# Altium schematic symbol library WR-TBL_Rising Cage Clamp.SchLib: 433 symbols (part 1 of 8)
Pins are listed as number, name and electrical type; pins without a type are passive.

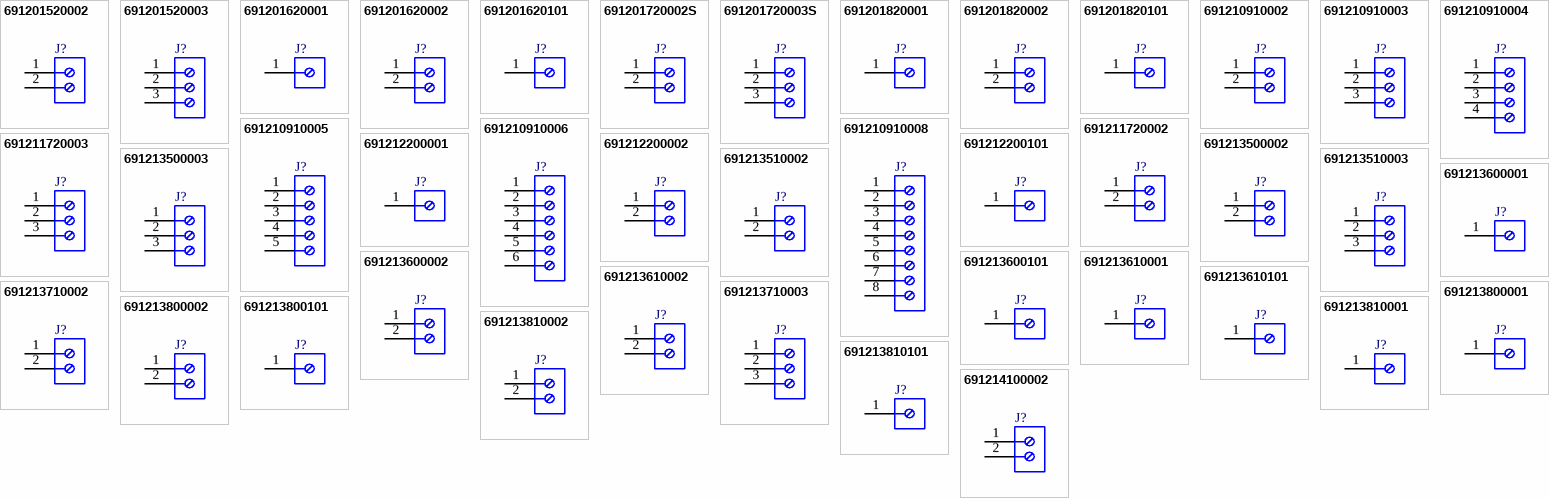
[diagram p0: symbols 691201520002 to 691214100002]

## 691201520002
designator J?  (value not drawn)
WR-TBL Series 2015 45° Entry Modular, THT, pitch 5.08mm, 02p; Manufacturer: Wurth Elektronik; Modularity: Yes; Rated Current: 16A; Wire Section: 12 to 30 (AWG) 3.31 to 0.0509 (mm^2); Working Voltage: 300V (AC); Manufacturer Part Number: 691201520002; Product Series: WR-TBL; ComponentLink1Description: Website Link; ComponentLink1URL: https://www.we-online.com; ComponentLink2Description: Datasheet Link; ComponentLink2URL: https://www.we-online.com/components/products/datasheet/691201520002; Mount: Through Hole; Operating Temperature Min: -30degC; Operating Temperature Max: 120degC; Packaging: Box; Application: Rising Cage Clamp; Number of Pins: 2; Number of Rows: 1; Orientation: 45deg; Lead Pitch: 5.08mm
footprint 691201520002
pins: 1, 2

## 691201520003
designator J?  (value not drawn)
WR-TBL Series 2015 45° Entry Modular, THT, pitch 5.08mm, 03p; Manufacturer: Wurth Elektronik; Modularity: Yes; Rated Current: 16A; Wire Section: 12 to 30 (AWG) 3.31 to 0.0509 (mm^2); Working Voltage: 300V (AC); Manufacturer Part Number: 691201520003; Product Series: WR-TBL; ComponentLink1Description: Website Link; ComponentLink1URL: https://www.we-online.com; ComponentLink2Description: Datasheet Link; ComponentLink2URL: https://www.we-online.com/components/products/datasheet/691201520003; Mount: Through Hole; Operating Temperature Min: -30degC; Operating Temperature Max: 120degC; Packaging: Box; Application: Rising Cage Clamp; Number of Pins: 3; Number of Rows: 1; Orientation: 45deg; Lead Pitch: 5.08mm
footprint 691201520003
pins: 1, 2, 3

## 691201620001
designator J?  (value not drawn)
WR-TBL Series 2016 45° Entry, THT, pitch 10.16mm, 01p; Manufacturer: Wurth Elektronik; Modularity: Yes; Rated Current: 16A; Wire Section: 12 to 30 (AWG) 3.31 to 0.05 (mm^2); Working Voltage: 300V (AC); Manufacturer Part Number: 691201620001; Product Series: WR-TBL; ComponentLink1Description: Website Link; ComponentLink1URL: https://www.we-online.com; ComponentLink2Description: Datasheet Link; ComponentLink2URL: https://www.we-online.com/components/products/datasheet/691201620001; Mount: Through Hole; Operating Temperature Min: -30degC; Operating Temperature Max: 120degC; Packaging: Box; Application: Rising Cage Clamp; Number of Pins: 1; Number of Rows: 1; Orientation: 45deg; Lead Pitch: 10.16mm
footprint 691201620001
pins: 1

## 691201620002
designator J?  (value not drawn)
WR-TBL Series 2016 45° Entry, THT, pitch 10.16mm, 02p; Manufacturer: Wurth Elektronik; Modularity: Yes; Rated Current: 16A; Wire Section: 12 to 30 (AWG) 3.31 to 0.05 (mm^2); Working Voltage: 300V (AC); Manufacturer Part Number: 691201620002; Product Series: WR-TBL; ComponentLink1Description: Website Link; ComponentLink1URL: https://www.we-online.com; ComponentLink2Description: Datasheet Link; ComponentLink2URL: https://www.we-online.com/components/products/datasheet/691201620002; Mount: Through Hole; Operating Temperature Min: -30degC; Operating Temperature Max: 120degC; Packaging: Box; Application: Rising Cage Clamp; Number of Pins: 2; Number of Rows: 1; Orientation: 45deg; Lead Pitch: 10.16mm
footprint 691201620002
pins: 1, 2

## 691201620101
designator J?  (value not drawn)
WR-TBL Series 2016 45° Entry, THT, pitch 10.16mm, 01p; Manufacturer: Wurth Elektronik; Modularity: Yes; Rated Current: 16A; Wire Section: 12 to 30 (AWG) 3.31 to 0.05 (mm^2); Working Voltage: 300V (AC); Manufacturer Part Number: 691201620101; Product Series: WR-TBL; ComponentLink1Description: Website Link; ComponentLink1URL: https://www.we-online.com; ComponentLink2Description: Datasheet Link; ComponentLink2URL: https://www.we-online.com/components/products/datasheet/691201620101; Mount: Through Hole; Operating Temperature Min: -30degC; Operating Temperature Max: 120degC; Packaging: Box; Application: Rising Cage Clamp; Number of Pins: 1; Number of Rows: 1; Orientation: 45deg; Lead Pitch: 10.16mm
footprint 691201620101
pins: 1

## 691201720002S
designator J?  (value not drawn)
WR-TBL Series 201S 45° Entry Modular, THT, pitch 5mm, 02p; Manufacturer: Wurth Elektronik; Modularity: Yes; Rated Current: 16A; Wire Section: 30 to 12 (AWG) 0.05 to 3.31 (mm^2); Working Voltage: 300V (AC); Manufacturer Part Number: 691201720002S; Product Series: WR-TBL; ComponentLink1Description: Website Link; ComponentLink1URL: https://www.we-online.com; ComponentLink2Description: Datasheet Link; ComponentLink2URL: https://www.we-online.com/components/products/datasheet/691201720002S; Mount: Through Hole; Operating Temperature Min: -30degC; Operating Temperature Max: 120degC; Packaging: Box; Application: Rising Cage Clamp; Number of Pins: 2; Number of Rows: 1; Orientation: 45deg; Lead Pitch: 5mm
footprint 691201720002S
pins: 1, 2

## 691201720003S
designator J?  (value not drawn)
WR-TBL Series 201S 45° Entry Modular, THT, pitch 5mm, 03p; Manufacturer: Wurth Elektronik; Modularity: Yes; Rated Current: 16A; Wire Section: 30 to 12 (AWG) 0.05 to 3.31 (mm^2); Working Voltage: 300V (AC); Manufacturer Part Number: 691201720003S; Product Series: WR-TBL; ComponentLink1Description: Website Link; ComponentLink1URL: https://www.we-online.com; ComponentLink2Description: Datasheet Link; ComponentLink2URL: https://www.we-online.com/components/products/datasheet/691201720003S; Mount: Through Hole; Operating Temperature Min: -30degC; Operating Temperature Max: 120degC; Packaging: Box; Application: Rising Cage Clamp; Number of Pins: 3; Number of Rows: 1; Orientation: 45deg; Lead Pitch: 5mm
footprint 691201720003S
pins: 1, 2, 3

## 691201820001
designator J?  (value not drawn)
WR-TBL Series 2018 45° Entry, THT, pitch 10mm, 01p; Manufacturer: Wurth Elektronik; Modularity: Yes; Rated Current: 16A; Wire Section: 12 to 30 (AWG) 3.31 to 0.05 (mm^2); Working Voltage: 300V (AC); Manufacturer Part Number: 691201820001; Product Series: WR-TBL; ComponentLink1Description: Website Link; ComponentLink1URL: https://www.we-online.com; ComponentLink2Description: Datasheet Link; ComponentLink2URL: https://www.we-online.com/components/products/datasheet/691201820001; Mount: Through Hole; Operating Temperature Min: -30degC; Operating Temperature Max: 120degC; Packaging: Box; Application: Rising Cage Clamp; Number of Pins: 1; Number of Rows: 1; Orientation: 45deg; Lead Pitch: 10mm
footprint 691201820001
pins: 1

## 691201820002
designator J?  (value not drawn)
WR-TBL Series 2018 45° Entry, THT, pitch 10mm, 02p; Manufacturer: Wurth Elektronik; Modularity: Yes; Rated Current: 16A; Wire Section: 12 to 30 (AWG) 3.31 to 0.05 (mm^2); Working Voltage: 300V (AC); Manufacturer Part Number: 691201820002; Product Series: WR-TBL; ComponentLink1Description: Website Link; ComponentLink1URL: https://www.we-online.com; ComponentLink2Description: Datasheet Link; ComponentLink2URL: https://www.we-online.com/components/products/datasheet/691201820002; Mount: Through Hole; Operating Temperature Min: -30degC; Operating Temperature Max: 120degC; Packaging: Box; Application: Rising Cage Clamp; Number of Pins: 2; Number of Rows: 1; Orientation: 45deg; Lead Pitch: 10mm
footprint 691201820002
pins: 1, 2

## 691201820101
designator J?  (value not drawn)
WR-TBL Series 2018 45° Entry, THT, pitch 10mm, 01p; Manufacturer: Wurth Elektronik; Modularity: Yes; Rated Current: 16A; Wire Section: 12 to 30 (AWG) 3.31 to 0.05 (mm^2); Working Voltage: 300V (AC); Manufacturer Part Number: 691201820101; Product Series: WR-TBL; ComponentLink1Description: Website Link; ComponentLink1URL: https://www.we-online.com; ComponentLink2Description: Datasheet Link; ComponentLink2URL: https://www.we-online.com/components/products/datasheet/691201820101; Mount: Through Hole; Operating Temperature Min: -30degC; Operating Temperature Max: 120degC; Packaging: Box; Application: Rising Cage Clamp; Number of Pins: 1; Number of Rows: 1; Orientation: 45deg; Lead Pitch: 10mm
footprint 691201820101
pins: 1

## 691210910002
designator J?  (value not drawn)
WR-TBL Series 2109 Horizontal Entry, THT, pitch 2.54mm, 02p; Manufacturer: Wurth Elektronik; Modularity: No; Rated Current: 6A; Wire Section: 30 to 18 (AWG) 0.2 to 0.75 (mm^2); Working Voltage: 150V (AC); Manufacturer Part Number: 691210910002; Product Series: WR-TBL; ComponentLink1Description: Website Link; ComponentLink1URL: https://www.we-online.com; ComponentLink2Description: Datasheet Link; ComponentLink2URL: https://www.we-online.com/components/products/datasheet/691210910002; Mount: Through Hole; Operating Temperature Min: -40degC; Operating Temperature Max: 105degC; Packaging: Box; Application: Rising Cage Clamp; Number of Pins: 2; Number of Rows: 1; Orientation: Horizontal; Lead Pitch: 2.54mm
footprint 691210910002
pins: 1, 2

## 691210910003
designator J?  (value not drawn)
WR-TBL Series 2109 Horizontal Entry, THT, pitch 2.54mm, 03p; Manufacturer: Wurth Elektronik; Modularity: No; Rated Current: 6A; Wire Section: 30 to 18 (AWG) 0.2 to 0.75 (mm^2); Working Voltage: 150V (AC); Manufacturer Part Number: 691210910003; Product Series: WR-TBL; ComponentLink1Description: Website Link; ComponentLink1URL: https://www.we-online.com; ComponentLink2Description: Datasheet Link; ComponentLink2URL: https://www.we-online.com/components/products/datasheet/691210910003; Mount: Through Hole; Operating Temperature Min: -40degC; Operating Temperature Max: 105degC; Packaging: Box; Application: Rising Cage Clamp; Number of Pins: 3; Number of Rows: 1; Orientation: Horizontal; Lead Pitch: 2.54mm
footprint 691210910003
pins: 1, 2, 3

## 691210910004
designator J?  (value not drawn)
WR-TBL Series 2109 Horizontal Entry, THT, pitch 2.54mm, 04p; Manufacturer: Wurth Elektronik; Modularity: No; Rated Current: 6A; Wire Section: 30 to 18 (AWG) 0.2 to 0.75 (mm^2); Working Voltage: 150V (AC); Manufacturer Part Number: 691210910004; Product Series: WR-TBL; ComponentLink1Description: Website Link; ComponentLink1URL: https://www.we-online.com; ComponentLink2Description: Datasheet Link; ComponentLink2URL: https://www.we-online.com/components/products/datasheet/691210910004; Mount: Through Hole; Operating Temperature Min: -40degC; Operating Temperature Max: 105degC; Packaging: Box; Application: Rising Cage Clamp; Number of Pins: 4; Number of Rows: 1; Orientation: Horizontal; Lead Pitch: 2.54mm
footprint 691210910004
pins: 1, 2, 3, 4

## 691210910005
designator J?  (value not drawn)
WR-TBL Series 2109 Horizontal Entry, THT, pitch 2.54mm, 05p; Manufacturer: Wurth Elektronik; Modularity: No; Rated Current: 6A; Wire Section: 30 to 18 (AWG) 0.2 to 0.75 (mm^2); Working Voltage: 150V (AC); Manufacturer Part Number: 691210910005; Product Series: WR-TBL; ComponentLink1Description: Website Link; ComponentLink1URL: https://www.we-online.com; ComponentLink2Description: Datasheet Link; ComponentLink2URL: https://www.we-online.com/components/products/datasheet/691210910005; Mount: Through Hole; Operating Temperature Min: -40degC; Operating Temperature Max: 105degC; Packaging: Box; Application: Rising Cage Clamp; Number of Pins: 5; Number of Rows: 1; Orientation: Horizontal; Lead Pitch: 2.54mm
footprint 691210910005
pins: 1, 2, 3, 4, 5

## 691210910006
designator J?  (value not drawn)
WR-TBL Series 2109 Horizontal Entry, THT, pitch 2.54mm, 06p; Manufacturer: Wurth Elektronik; Modularity: No; Rated Current: 6A; Wire Section: 30 to 18 (AWG) 0.2 to 0.75 (mm^2); Working Voltage: 150V (AC); Manufacturer Part Number: 691210910006; Product Series: WR-TBL; ComponentLink1Description: Website Link; ComponentLink1URL: https://www.we-online.com; ComponentLink2Description: Datasheet Link; ComponentLink2URL: https://www.we-online.com/components/products/datasheet/691210910006; Mount: Through Hole; Operating Temperature Min: -40degC; Operating Temperature Max: 105degC; Packaging: Box; Application: Rising Cage Clamp; Number of Pins: 6; Number of Rows: 1; Orientation: Horizontal; Lead Pitch: 2.54mm
footprint 691210910006
pins: 1, 2, 3, 4, 5, 6

## 691210910008
designator J?  (value not drawn)
WR-TBL Series 2109 Horizontal Entry, THT, pitch 2.54mm, 08p; Manufacturer: Wurth Elektronik; Modularity: No; Rated Current: 6A; Wire Section: 30 to 18 (AWG) 0.2 to 0.75 (mm^2); Working Voltage: 150V (AC); Manufacturer Part Number: 691210910008; Product Series: WR-TBL; ComponentLink1Description: Website Link; ComponentLink1URL: https://www.we-online.com; ComponentLink2Description: Datasheet Link; ComponentLink2URL: https://www.we-online.com/components/products/datasheet/691210910008; Mount: Through Hole; Operating Temperature Min: -40degC; Operating Temperature Max: 105degC; Packaging: Box; Application: Rising Cage Clamp; Number of Pins: 8; Number of Rows: 1; Orientation: Horizontal; Lead Pitch: 2.54mm
footprint 691210910008
pins: 1, 2, 3, 4, 5, 6, 7, 8

## 691211720002
designator J?  (value not drawn)
WR-TBL Series 211 45° Entry Modular, THT, pitch 5mm, 02p; Manufacturer: Wurth Elektronik; Modularity: Yes; Rated Current: 10A; Wire Section: 24 to 12 (AWG) 0.2 to 2.5 (mm^2); Working Voltage: 300V (AC); Manufacturer Part Number: 691211720002; Product Series: WR-TBL; ComponentLink1Description: Website Link; ComponentLink1URL: https://www.we-online.com; ComponentLink2Description: Datasheet Link; ComponentLink2URL: https://www.we-online.com/components/products/datasheet/691211720002; Mount: Through Hole; Operating Temperature Min: -40degC; Operating Temperature Max: 105degC; Packaging: Box; Application: Rising Cage Clamp; Number of Pins: 2; Number of Rows: 1; Orientation: 45deg; Lead Pitch: 5mm
footprint 691211720002
pins: 1, 2

## 691211720003
designator J?  (value not drawn)
WR-TBL Series 211 45° Entry Modular, THT, pitch 5mm, 03p; Manufacturer: Wurth Elektronik; Modularity: Yes; Rated Current: 10A; Wire Section: 24 to 12 (AWG) 0.2 to 2.5 (mm^2); Working Voltage: 300V (AC); Manufacturer Part Number: 691211720003; Product Series: WR-TBL; ComponentLink1Description: Website Link; ComponentLink1URL: https://www.we-online.com; ComponentLink2Description: Datasheet Link; ComponentLink2URL: https://www.we-online.com/components/products/datasheet/691211720003; Mount: Through Hole; Operating Temperature Min: -40degC; Operating Temperature Max: 105degC; Packaging: Box; Application: Rising Cage Clamp; Number of Pins: 3; Number of Rows: 1; Orientation: 45deg; Lead Pitch: 5mm
footprint 691211720003
pins: 1, 2, 3

## 691212200001
designator J?  (value not drawn)
WR-TBL Series 2122 Vertical Cable Entry, THT, pitch 7mm, 01p; Manufacturer: Wurth Elektronik; Modularity: Yes; Rated Current: 10A; Wire Section: 16 to 30 (AWG) 1.31 to 0.0509 (mm^2); Working Voltage: 300V (AC); Manufacturer Part Number: 691212200001; Product Series: WR-TBL; ComponentLink1Description: Website Link; ComponentLink1URL: https://www.we-online.com; ComponentLink2Description: Datasheet Link; ComponentLink2URL: https://www.we-online.com/components/products/datasheet/691212200001; Mount: Through Hole; Operating Temperature Min: -30degC; Operating Temperature Max: 120degC; Packaging: Box; Application: Rising Cage Clamp; Number of Pins: 1; Number of Rows: 1; Orientation: Vertical; Lead Pitch: 7mm
footprint 691212200001
pins: 1

## 691212200002
designator J?  (value not drawn)
WR-TBL Series 2122 Vertical Cable Entry, THT, pitch 7mm, 02p; Manufacturer: Wurth Elektronik; Modularity: Yes; Rated Current: 10A; Wire Section: 16 to 30 (AWG) 1.31 to 0.0509 (mm^2); Working Voltage: 300V (AC); Manufacturer Part Number: 691212200002; Product Series: WR-TBL; ComponentLink1Description: Website Link; ComponentLink1URL: https://www.we-online.com; ComponentLink2Description: Datasheet Link; ComponentLink2URL: https://www.we-online.com/components/products/datasheet/691212200002; Mount: Through Hole; Operating Temperature Min: -30degC; Operating Temperature Max: 120degC; Packaging: Box; Application: Rising Cage Clamp; Number of Pins: 2; Number of Rows: 1; Orientation: Vertical; Lead Pitch: 7mm
footprint 691212200002
pins: 1, 2

## 691212200101
designator J?  (value not drawn)
WR-TBL Series 2122 Vertical Cable Entry, THT, pitch 7mm, 01p; Manufacturer: Wurth Elektronik; Modularity: Yes; Rated Current: 10A; Wire Section: 16 to 30 (AWG) 1.31 to 0.0509 (mm^2); Working Voltage: 300V (AC); Manufacturer Part Number: 691212200101; Product Series: WR-TBL; ComponentLink1Description: Website Link; ComponentLink1URL: https://www.we-online.com; ComponentLink2Description: Datasheet Link; ComponentLink2URL: https://www.we-online.com/components/products/datasheet/691212200101; Mount: Through Hole; Operating Temperature Min: -30degC; Operating Temperature Max: 120degC; Packaging: Box; Application: Rising Cage Clamp; Number of Pins: 1; Number of Rows: 1; Orientation: Vertical; Lead Pitch: 7mm
footprint 691212200101
pins: 1

## 691213500002
designator J?  (value not drawn)
WR-TBL Series 2135 Vertical Entry Modular, THT, pitch 5.08mm, 02p; Manufacturer: Wurth Elektronik; Modularity: Yes; Rated Current: 14A; Wire Section: 14 to 30 (AWG) 2.08 to 0.0509 (mm^2); Working Voltage: 300V (AC); Manufacturer Part Number: 691213500002; Product Series: WR-TBL; ComponentLink1Description: Website Link; ComponentLink1URL: https://www.we-online.com; ComponentLink2Description: Datasheet Link; ComponentLink2URL: https://www.we-online.com/components/products/datasheet/691213500002; Mount: Through Hole; Operating Temperature Min: -30degC; Operating Temperature Max: 120degC; Packaging: Box; Application: Rising Cage Clamp; Number of Pins: 2; Number of Rows: 1; Orientation: Vertical; Lead Pitch: 5.08mm
footprint 691213500002
pins: 1, 2

## 691213500003
designator J?  (value not drawn)
WR-TBL Series 2135 Vertical Entry Modular, THT, pitch 5.08mm, 03p; Manufacturer: Wurth Elektronik; Modularity: Yes; Rated Current: 14A; Wire Section: 14 to 30 (AWG) 2.08 to 0.0509 (mm^2); Working Voltage: 300V (AC); Manufacturer Part Number: 691213500003; Product Series: WR-TBL; ComponentLink1Description: Website Link; ComponentLink1URL: https://www.we-online.com; ComponentLink2Description: Datasheet Link; ComponentLink2URL: https://www.we-online.com/components/products/datasheet/691213500003; Mount: Through Hole; Operating Temperature Min: -30degC; Operating Temperature Max: 120degC; Packaging: Box; Application: Rising Cage Clamp; Number of Pins: 3; Number of Rows: 1; Orientation: Vertical; Lead Pitch: 5.08mm
footprint 691213500003
pins: 1, 2, 3

## 691213510002
designator J?  (value not drawn)
WR-TBL Series 2135 Horizontal Entry Modular, THT, pitch 5.08mm, 02p; Manufacturer: Wurth Elektronik; Modularity: Yes; Rated Current: 14A; Wire Section: 14 to 30 (AWG) 2.08 to 0.0509 (mm^2); Working Voltage: 300V (AC); Manufacturer Part Number: 691213510002; Product Series: WR-TBL; ComponentLink1Description: Website Link; ComponentLink1URL: https://www.we-online.com; ComponentLink2Description: Datasheet Link; ComponentLink2URL: https://www.we-online.com/components/products/datasheet/691213510002; Mount: Through Hole; Operating Temperature Min: -30degC; Operating Temperature Max: 120degC; Packaging: Box; Application: Rising Cage Clamp; Number of Pins: 2; Number of Rows: 1; Orientation: Horizontal; Lead Pitch: 5.08mm
footprint 691213510002
pins: 1, 2

## 691213510003
designator J?  (value not drawn)
WR-TBL Series 2135 Horizontal Entry Modular, THT, pitch 5.08mm, 03p; Manufacturer: Wurth Elektronik; Modularity: Yes; Rated Current: 14A; Wire Section: 14 to 30 (AWG) 2.08 to 0.0509 (mm^2); Working Voltage: 300V (AC); Manufacturer Part Number: 691213510003; Product Series: WR-TBL; ComponentLink1Description: Website Link; ComponentLink1URL: https://www.we-online.com; ComponentLink2Description: Datasheet Link; ComponentLink2URL: https://www.we-online.com/components/products/datasheet/691213510003; Mount: Through Hole; Operating Temperature Min: -30degC; Operating Temperature Max: 120degC; Packaging: Box; Application: Rising Cage Clamp; Number of Pins: 3; Number of Rows: 1; Orientation: Horizontal; Lead Pitch: 5.08mm
footprint 691213510003
pins: 1, 2, 3

## 691213600001
designator J?  (value not drawn)
WR-TBL Series 2136 Vertical Entry, THT, pitch 10.16mm, 01p; Manufacturer: Wurth Elektronik; Modularity: Yes; Rated Current: 14A; Wire Section: 14 to 30 (AWG) 2.08 to 0.0509 (mm^2); Working Voltage: 300V (AC); Manufacturer Part Number: 691213600001; Product Series: WR-TBL; ComponentLink1Description: Website Link; ComponentLink1URL: https://www.we-online.com; ComponentLink2Description: Datasheet Link; ComponentLink2URL: https://www.we-online.com/components/products/datasheet/691213600001; Mount: Through Hole; Operating Temperature Min: -30degC; Operating Temperature Max: 120degC; Packaging: Box; Application: Rising Cage Clamp; Number of Pins: 1; Number of Rows: 1; Orientation: Vertical; Lead Pitch: 10.16mm
footprint 691213600001
pins: 1

## 691213600002
designator J?  (value not drawn)
WR-TBL Series 2136 Vertical Entry, THT, pitch 10.16mm, 02p; Manufacturer: Wurth Elektronik; Modularity: Yes; Rated Current: 14A; Wire Section: 14 to 30 (AWG) 2.08 to 0.0509 (mm^2); Working Voltage: 300V (AC); Manufacturer Part Number: 691213600002; Product Series: WR-TBL; ComponentLink1Description: Website Link; ComponentLink1URL: https://www.we-online.com; ComponentLink2Description: Datasheet Link; ComponentLink2URL: https://www.we-online.com/components/products/datasheet/691213600002; Mount: Through Hole; Operating Temperature Min: -30degC; Operating Temperature Max: 120degC; Packaging: Box; Application: Rising Cage Clamp; Number of Pins: 2; Number of Rows: 1; Orientation: Vertical; Lead Pitch: 10.16mm
footprint 691213600002
pins: 1, 2

## 691213600101
designator J?  (value not drawn)
WR-TBL Series 2136 Vertical Entry, THT, pitch 10.16mm, 01p; Manufacturer: Wurth Elektronik; Modularity: Yes; Rated Current: 14A; Wire Section: 14 to 30 (AWG) 2.08 to 0.0509 (mm^2); Working Voltage: 300V (AC); Manufacturer Part Number: 691213600101; Product Series: WR-TBL; ComponentLink1Description: Website Link; ComponentLink1URL: https://www.we-online.com; ComponentLink2Description: Datasheet Link; ComponentLink2URL: https://www.we-online.com/components/products/datasheet/691213600101; Mount: Through Hole; Operating Temperature Min: -30degC; Operating Temperature Max: 120degC; Packaging: Box; Application: Rising Cage Clamp; Number of Pins: 1; Number of Rows: 1; Orientation: Vertical; Lead Pitch: 10.16mm
footprint 691213600101
pins: 1

## 691213610001
designator J?  (value not drawn)
WR-TBL Series 2136 Horizontal Entry, THT, pitch 10.16mm, 01p; Manufacturer: Wurth Elektronik; Modularity: Yes; Rated Current: 14A; Wire Section: 14 to 30 (AWG) 2.08 to 0.0509 (mm^2); Working Voltage: 300V (AC); Manufacturer Part Number: 691213610001; Product Series: WR-TBL; ComponentLink1Description: Website Link; ComponentLink1URL: https://www.we-online.com; ComponentLink2Description: Datasheet Link; ComponentLink2URL: https://www.we-online.com/components/products/datasheet/691213610001; Mount: Through Hole; Operating Temperature Min: -30degC; Operating Temperature Max: 120degC; Packaging: Box; Application: Rising Cage Clamp; Number of Pins: 1; Number of Rows: 1; Orientation: Horizontal; Lead Pitch: 10.16mm
footprint 691213610001
pins: 1

## 691213610002
designator J?  (value not drawn)
WR-TBL Series 2136 Horizontal Entry, THT, pitch 10.16mm, 02p; Manufacturer: Wurth Elektronik; Modularity: Yes; Rated Current: 14A; Wire Section: 14 to 30 (AWG) 2.08 to 0.0509 (mm^2); Working Voltage: 300V (AC); Manufacturer Part Number: 691213610002; Product Series: WR-TBL; ComponentLink1Description: Website Link; ComponentLink1URL: https://www.we-online.com; ComponentLink2Description: Datasheet Link; ComponentLink2URL: https://www.we-online.com/components/products/datasheet/691213610002; Mount: Through Hole; Operating Temperature Min: -30degC; Operating Temperature Max: 120degC; Packaging: Box; Application: Rising Cage Clamp; Number of Pins: 2; Number of Rows: 1; Orientation: Horizontal; Lead Pitch: 10.16mm
footprint 691213610002
pins: 1, 2

## 691213610101
designator J?  (value not drawn)
WR-TBL Series 2136 Horizontal Entry, THT, pitch 10.16mm, 01p; Manufacturer: Wurth Elektronik; Modularity: Yes; Rated Current: 14A; Wire Section: 14 to 30 (AWG) 2.08 to 0.0509 (mm^2); Working Voltage: 300V (AC); Manufacturer Part Number: 691213610101; Product Series: WR-TBL; ComponentLink1Description: Website Link; ComponentLink1URL: https://www.we-online.com; ComponentLink2Description: Datasheet Link; ComponentLink2URL: https://www.we-online.com/components/products/datasheet/691213610101; Mount: Through Hole; Operating Temperature Min: -30degC; Operating Temperature Max: 120degC; Packaging: Box; Application: Rising Cage Clamp; Number of Pins: 1; Number of Rows: 1; Orientation: Horizontal; Lead Pitch: 10.16mm
footprint 691213610101
pins: 1

## 691213710002
designator J?  (value not drawn)
WR-TBL Series 213 Horizontal Entry Modular, THT, pitch 5mm, 02p; Manufacturer: Wurth Elektronik; Modularity: Yes; Rated Current: 10A; Wire Section: 26 to 16 (AWG) 0.5 to 1.5 (mm^2); Working Voltage: 300V (AC); Manufacturer Part Number: 691213710002; Product Series: WR-TBL; ComponentLink1Description: Website Link; ComponentLink1URL: https://www.we-online.com; ComponentLink2Description: Datasheet Link; ComponentLink2URL: https://www.we-online.com/components/products/datasheet/691213710002; Mount: Through Hole; Operating Temperature Min: -40degC; Operating Temperature Max: 105degC; Packaging: Box; Application: Rising Cage Clamp; Number of Pins: 2; Number of Rows: 1; Orientation: Horizontal; Lead Pitch: 5mm
footprint 691213710002
pins: 1, 2

## 691213710003
designator J?  (value not drawn)
WR-TBL Series 213 Horizontal Entry Modular, THT, pitch 5mm, 03p; Manufacturer: Wurth Elektronik; Modularity: Yes; Rated Current: 10A; Wire Section: 26 to 16 (AWG) 0.5 to 1.5 (mm^2); Working Voltage: 300V (AC); Manufacturer Part Number: 691213710003; Product Series: WR-TBL; ComponentLink1Description: Website Link; ComponentLink1URL: https://www.we-online.com; ComponentLink2Description: Datasheet Link; ComponentLink2URL: https://www.we-online.com/components/products/datasheet/691213710003; Mount: Through Hole; Operating Temperature Min: -40degC; Operating Temperature Max: 105degC; Packaging: Box; Application: Rising Cage Clamp; Number of Pins: 3; Number of Rows: 1; Orientation: Horizontal; Lead Pitch: 5mm
footprint 691213710003
pins: 1, 2, 3

## 691213800001
designator J?  (value not drawn)
WR-TBL Series 2138 Vertical Entry, THT, pitch 10mm, 01p; Manufacturer: Wurth Elektronik; Modularity: Yes; Rated Current: 14A; Wire Section: 14 to 30 (AWG) 2.08 to 0.0509 (mm^2); Working Voltage: 300V (AC); Manufacturer Part Number: 691213800001; Product Series: WR-TBL; ComponentLink1Description: Website Link; ComponentLink1URL: https://www.we-online.com; ComponentLink2Description: Datasheet Link; ComponentLink2URL: https://www.we-online.com/components/products/datasheet/691213800001; Mount: Through Hole; Operating Temperature Min: -30degC; Operating Temperature Max: 120degC; Packaging: Box; Application: Rising Cage Clamp; Number of Pins: 1; Number of Rows: 1; Orientation: Vertical; Lead Pitch: 10mm
footprint 691213800001
pins: 1

## 691213800002
designator J?  (value not drawn)
WR-TBL Series 2138 Vertical Entry, THT, pitch 10mm, 02p; Manufacturer: Wurth Elektronik; Modularity: Yes; Rated Current: 14A; Wire Section: 14 to 30 (AWG) 2.08 to 0.0509 (mm^2); Working Voltage: 300V (AC); Manufacturer Part Number: 691213800002; Product Series: WR-TBL; ComponentLink1Description: Website Link; ComponentLink1URL: https://www.we-online.com; ComponentLink2Description: Datasheet Link; ComponentLink2URL: https://www.we-online.com/components/products/datasheet/691213800002; Mount: Through Hole; Operating Temperature Min: -30degC; Operating Temperature Max: 120degC; Packaging: Box; Application: Rising Cage Clamp; Number of Pins: 2; Number of Rows: 1; Orientation: Vertical; Lead Pitch: 10mm
footprint 691213800002
pins: 1, 2

## 691213800101
designator J?  (value not drawn)
WR-TBL Series 2138 Vertical Entry, THT, pitch 10mm, 01p; Manufacturer: Wurth Elektronik; Modularity: Yes; Rated Current: 14A; Wire Section: 14 to 30 (AWG) 2.08 to 0.0509 (mm^2); Working Voltage: 300V (AC); Manufacturer Part Number: 691213800101; Product Series: WR-TBL; ComponentLink1Description: Website Link; ComponentLink1URL: https://www.we-online.com; ComponentLink2Description: Datasheet Link; ComponentLink2URL: https://www.we-online.com/components/products/datasheet/691213800101; Mount: Through Hole; Operating Temperature Min: -30degC; Operating Temperature Max: 120degC; Packaging: Box; Application: Rising Cage Clamp; Number of Pins: 1; Number of Rows: 1; Orientation: Vertical; Lead Pitch: 10mm
footprint 691213800101
pins: 1

## 691213810001
designator J?  (value not drawn)
WR-TBL Series 2138 Horizontal Entry, THT, pitch 10mm, 01p; Manufacturer: Wurth Elektronik; Modularity: Yes; Rated Current: 14A; Wire Section: 14 to 30 (AWG) 2.08 to 0.0509 (mm^2); Working Voltage: 300V (AC); Manufacturer Part Number: 691213810001; Product Series: WR-TBL; ComponentLink1Description: Website Link; ComponentLink1URL: https://www.we-online.com; ComponentLink2Description: Datasheet Link; ComponentLink2URL: https://www.we-online.com/components/products/datasheet/691213810001; Mount: Through Hole; Operating Temperature Min: -30degC; Operating Temperature Max: 120degC; Packaging: Box; Application: Rising Cage Clamp; Number of Pins: 1; Number of Rows: 1; Orientation: Horizontal; Lead Pitch: 10mm
footprint 691213810001
pins: 1

## 691213810002
designator J?  (value not drawn)
WR-TBL Series 2138 Horizontal Entry, THT, pitch 10mm, 02p; Manufacturer: Wurth Elektronik; Modularity: Yes; Rated Current: 14A; Wire Section: 14 to 30 (AWG) 2.08 to 0.0509 (mm^2); Working Voltage: 300V (AC); Manufacturer Part Number: 691213810002; Product Series: WR-TBL; ComponentLink1Description: Website Link; ComponentLink1URL: https://www.we-online.com; ComponentLink2Description: Datasheet Link; ComponentLink2URL: https://www.we-online.com/components/products/datasheet/691213810002; Mount: Through Hole; Operating Temperature Min: -30degC; Operating Temperature Max: 120degC; Packaging: Box; Application: Rising Cage Clamp; Number of Pins: 2; Number of Rows: 1; Orientation: Horizontal; Lead Pitch: 10mm
footprint 691213810002
pins: 1, 2

## 691213810101
designator J?  (value not drawn)
WR-TBL Series 2138 Horizontal Entry, THT, pitch 10mm, 01p; Manufacturer: Wurth Elektronik; Modularity: Yes; Rated Current: 14A; Wire Section: 14 to 30 (AWG) 2.08 to 0.0509 (mm^2); Working Voltage: 300V (AC); Manufacturer Part Number: 691213810101; Product Series: WR-TBL; ComponentLink1Description: Website Link; ComponentLink1URL: https://www.we-online.com; ComponentLink2Description: Datasheet Link; ComponentLink2URL: https://www.we-online.com/components/products/datasheet/691213810101; Mount: Through Hole; Operating Temperature Min: -30degC; Operating Temperature Max: 120degC; Packaging: Box; Application: Rising Cage Clamp; Number of Pins: 1; Number of Rows: 1; Orientation: Horizontal; Lead Pitch: 10mm
footprint 691213810101
pins: 1

## 691214100002
designator J?  (value not drawn)
WR-TBL Series 2141 Vertical Entry Modular, THT, pitch 3.5mm, 02p; Manufacturer: Wurth Elektronik; Modularity: Yes; Rated Current: 10A; Wire Section: 30 to 16 (AWG) 0.05 to 1.31 (mm^2); Working Voltage: 300V (AC); Manufacturer Part Number: 691214100002; Product Series: WR-TBL; ComponentLink1Description: Website Link; ComponentLink1URL: https://www.we-online.com; ComponentLink2Description: Datasheet Link; ComponentLink2URL: https://www.we-online.com/components/products/datasheet/691214100002; Mount: Through Hole; Operating Temperature Min: -30degC; Operating Temperature Max: 120degC; Packaging: Box; Application: Rising Cage Clamp; Number of Pins: 2; Number of Rows: 1; Orientation: Vertical; Lead Pitch: 3.5mm
footprint 691214100002
pins: 1, 2

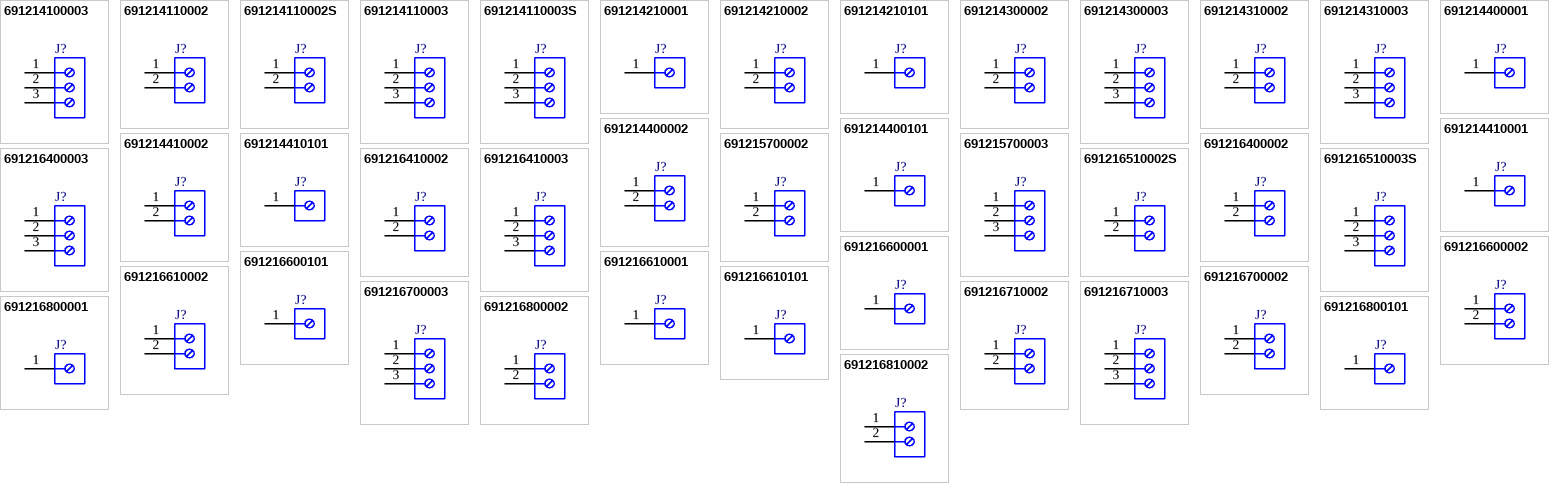
[diagram p1: symbols 691214100003 to 691216810002]

## 691214100003
designator J?  (value not drawn)
WR-TBL Series 2141 Vertical Entry Modular, THT, pitch 3.5mm, 03p; Manufacturer: Wurth Elektronik; Modularity: Yes; Rated Current: 10A; Wire Section: 30 to 16 (AWG) 0.05 to 1.31 (mm^2); Working Voltage: 300V (AC); Manufacturer Part Number: 691214100003; Product Series: WR-TBL; ComponentLink1Description: Website Link; ComponentLink1URL: https://www.we-online.com; ComponentLink2Description: Datasheet Link; ComponentLink2URL: https://www.we-online.com/components/products/datasheet/691214100003; Mount: Through Hole; Operating Temperature Min: -30degC; Operating Temperature Max: 120degC; Packaging: Box; Application: Rising Cage Clamp; Number of Pins: 3; Number of Rows: 1; Orientation: Vertical; Lead Pitch: 3.5mm
footprint 691214100003
pins: 1, 2, 3

## 691214110002
designator J?  (value not drawn)
WR-TBL Series 2141 Horizontal Entry Modular, THT, pitch 3.5mm, 02p; Manufacturer: Wurth Elektronik; Modularity: Yes; Rated Current: 10A; Wire Section: 24 to 16 (AWG) 0.2 to 1 (mm^2); Working Voltage: 300V (AC); Manufacturer Part Number: 691214110002; Product Series: WR-TBL; ComponentLink1Description: Website Link; ComponentLink1URL: https://www.we-online.com; ComponentLink2Description: Datasheet Link; ComponentLink2URL: https://www.we-online.com/components/products/datasheet/691214110002; Mount: Through Hole; Operating Temperature Min: -40degC; Operating Temperature Max: 105degC; Packaging: Box; Application: Rising Cage Clamp; Number of Pins: 2; Number of Rows: 1; Orientation: Horizontal; Lead Pitch: 3.5mm
footprint 691214110002
pins: 1, 2

## 691214110002S
designator J?  (value not drawn)
WR-TBL Series 2141S Horizontal Entry Modular, THT, pitch 3.5mm, 02p; Manufacturer: Wurth Elektronik; Modularity: Yes; Rated Current: 10A; Wire Section: 30 to 16 (AWG) 0.05 to 1.31 (mm^2); Working Voltage: 300V (AC); Manufacturer Part Number: 691214110002S; Product Series: WR-TBL; ComponentLink1Description: Website Link; ComponentLink1URL: https://www.we-online.com; ComponentLink2Description: Datasheet Link; ComponentLink2URL: https://www.we-online.com/components/products/datasheet/691214110002S; Mount: Through Hole; Operating Temperature Min: -30degC; Operating Temperature Max: 120degC; Packaging: Box; Application: Rising Cage Clamp; Number of Pins: 2; Number of Rows: 1; Orientation: Horizontal; Lead Pitch: 3.5mm
footprint 691214110002S
pins: 1, 2

## 691214110003
designator J?  (value not drawn)
WR-TBL Series 2141 Horizontal Entry Modular, THT, pitch 3.5mm, 03p; Manufacturer: Wurth Elektronik; Modularity: Yes; Rated Current: 10A; Wire Section: 24 to 16 (AWG) 0.2 to 1 (mm^2); Working Voltage: 300V (AC); Manufacturer Part Number: 691214110003; Product Series: WR-TBL; ComponentLink1Description: Website Link; ComponentLink1URL: https://www.we-online.com; ComponentLink2Description: Datasheet Link; ComponentLink2URL: https://www.we-online.com/components/products/datasheet/691214110003; Mount: Through Hole; Operating Temperature Min: -40degC; Operating Temperature Max: 105degC; Packaging: Box; Application: Rising Cage Clamp; Number of Pins: 3; Number of Rows: 1; Orientation: Horizontal; Lead Pitch: 3.5mm
footprint 691214110003
pins: 1, 2, 3

## 691214110003S
designator J?  (value not drawn)
WR-TBL Series 2141S Horizontal Entry Modular, THT, pitch 3.5mm, 03p; Manufacturer: Wurth Elektronik; Modularity: Yes; Rated Current: 10A; Wire Section: 30 to 16 (AWG) 0.05 to 1.31 (mm^2); Working Voltage: 300V (AC); Manufacturer Part Number: 691214110003S; Product Series: WR-TBL; ComponentLink1Description: Website Link; ComponentLink1URL: https://www.we-online.com; ComponentLink2Description: Datasheet Link; ComponentLink2URL: https://www.we-online.com/components/products/datasheet/691214110003S; Mount: Through Hole; Operating Temperature Min: -30degC; Operating Temperature Max: 120degC; Packaging: Box; Application: Rising Cage Clamp; Number of Pins: 3; Number of Rows: 1; Orientation: Horizontal; Lead Pitch: 3.5mm
footprint 691214110003S
pins: 1, 2, 3

## 691214210001
designator J?  (value not drawn)
WR-TBL Series 2142 Horizontal Entry, THT, pitch 7mm, 01p; Manufacturer: Wurth Elektronik; Modularity: Yes; Rated Current: 10A; Wire Section: 16 to 30 (AWG) 1.31 to 0.0509 (mm^2); Working Voltage: 300V (AC); Manufacturer Part Number: 691214210001; Product Series: WR-TBL; ComponentLink1Description: Website Link; ComponentLink1URL: https://www.we-online.com; ComponentLink2Description: Datasheet Link; ComponentLink2URL: https://www.we-online.com/components/products/datasheet/691214210001; Mount: Through Hole; Operating Temperature Min: -30degC; Operating Temperature Max: 120degC; Packaging: Box; Application: Rising Cage Clamp; Number of Pins: 1; Number of Rows: 1; Orientation: Horizontal; Lead Pitch: 7mm
footprint 691214210001
pins: 1

## 691214210002
designator J?  (value not drawn)
WR-TBL Series 2142 Horizontal Entry, THT, pitch 7mm, 02p; Manufacturer: Wurth Elektronik; Modularity: Yes; Rated Current: 10A; Wire Section: 16 to 30 (AWG) 1.31 to 0.0509 (mm^2); Working Voltage: 300V (AC); Manufacturer Part Number: 691214210002; Product Series: WR-TBL; ComponentLink1Description: Website Link; ComponentLink1URL: https://www.we-online.com; ComponentLink2Description: Datasheet Link; ComponentLink2URL: https://www.we-online.com/components/products/datasheet/691214210002; Mount: Through Hole; Operating Temperature Min: -30degC; Operating Temperature Max: 120degC; Packaging: Box; Application: Rising Cage Clamp; Number of Pins: 2; Number of Rows: 1; Orientation: Horizontal; Lead Pitch: 7mm
footprint 691214210002
pins: 1, 2

## 691214210101
designator J?  (value not drawn)
WR-TBL Series 2142 Horizontal Entry, THT, pitch 7mm, 01p; Manufacturer: Wurth Elektronik; Modularity: Yes; Rated Current: 10A; Wire Section: 16 to 30 (AWG) 1.31 to 0.0509 (mm^2); Working Voltage: 300V (AC); Manufacturer Part Number: 691214210101; Product Series: WR-TBL; ComponentLink1Description: Website Link; ComponentLink1URL: https://www.we-online.com; ComponentLink2Description: Datasheet Link; ComponentLink2URL: https://www.we-online.com/components/products/datasheet/691214210101; Mount: Through Hole; Operating Temperature Min: -30degC; Operating Temperature Max: 120degC; Packaging: Box; Application: Rising Cage Clamp; Number of Pins: 1; Number of Rows: 1; Orientation: Horizontal; Lead Pitch: 7mm
footprint 691214210101
pins: 1

## 691214300002
designator J?  (value not drawn)
WR-TBL Series 2143 Vertical Entry Modular, THT, pitch 3.81mm, 02p; Manufacturer: Wurth Elektronik; Modularity: Yes; Rated Current: 10A; Wire Section: 30 to 16 (AWG) 0.05 to 1.31 (mm^2); Working Voltage: 300V (AC); Manufacturer Part Number: 691214300002; Product Series: WR-TBL; ComponentLink1Description: Website Link; ComponentLink1URL: https://www.we-online.com; ComponentLink2Description: Datasheet Link; ComponentLink2URL: https://www.we-online.com/components/products/datasheet/691214300002; Mount: Through Hole; Operating Temperature Min: -30degC; Operating Temperature Max: 120degC; Packaging: Box; Application: Rising Cage Clamp; Number of Pins: 2; Number of Rows: 1; Orientation: Vertical; Lead Pitch: 3.81mm
footprint 691214300002
pins: 1, 2

## 691214300003
designator J?  (value not drawn)
WR-TBL Series 2143 Vertical Entry Modular, THT, pitch 3.81mm, 03p; Manufacturer: Wurth Elektronik; Modularity: Yes; Rated Current: 10A; Wire Section: 30 to 16 (AWG) 0.05 to 1.31 (mm^2); Working Voltage: 300V (AC); Manufacturer Part Number: 691214300003; Product Series: WR-TBL; ComponentLink1Description: Website Link; ComponentLink1URL: https://www.we-online.com; ComponentLink2Description: Datasheet Link; ComponentLink2URL: https://www.we-online.com/components/products/datasheet/691214300003; Mount: Through Hole; Operating Temperature Min: -30degC; Operating Temperature Max: 120degC; Packaging: Box; Application: Rising Cage Clamp; Number of Pins: 3; Number of Rows: 1; Orientation: Vertical; Lead Pitch: 3.81mm
footprint 691214300003
pins: 1, 2, 3

## 691214310002
designator J?  (value not drawn)
WR-TBL Series 2143 Horizontal Entry Modular, THT, pitch 3.81mm, 02p; Manufacturer: Wurth Elektronik; Modularity: Yes; Rated Current: 10A; Wire Section: 24 to 16 (AWG) 0.2 to 1 (mm^2); Working Voltage: 300V (AC); Manufacturer Part Number: 691214310002; Product Series: WR-TBL; ComponentLink1Description: Website Link; ComponentLink1URL: https://www.we-online.com; ComponentLink2Description: Datasheet Link; ComponentLink2URL: https://www.we-online.com/components/products/datasheet/691214310002; Mount: Through Hole; Operating Temperature Min: -40degC; Operating Temperature Max: 105degC; Packaging: Box; Application: Rising Cage Clamp; Number of Pins: 2; Number of Rows: 1; Orientation: Horizontal; Lead Pitch: 3.81mm
footprint 691214310002
pins: 1, 2

## 691214310003
designator J?  (value not drawn)
WR-TBL Series 2143 Horizontal Entry Modular, THT, pitch 3.81mm, 03p; Manufacturer: Wurth Elektronik; Modularity: Yes; Rated Current: 10A; Wire Section: 24 to 16 (AWG) 0.2 to 1 (mm^2); Working Voltage: 300V (AC); Manufacturer Part Number: 691214310003; Product Series: WR-TBL; ComponentLink1Description: Website Link; ComponentLink1URL: https://www.we-online.com; ComponentLink2Description: Datasheet Link; ComponentLink2URL: https://www.we-online.com/components/products/datasheet/691214310003; Mount: Through Hole; Operating Temperature Min: -40degC; Operating Temperature Max: 105degC; Packaging: Box; Application: Rising Cage Clamp; Number of Pins: 3; Number of Rows: 1; Orientation: Horizontal; Lead Pitch: 3.81mm
footprint 691214310003
pins: 1, 2, 3

## 691214400001
designator J?  (value not drawn)
WR-TBL Series 2144 Vertical Cable Entry, THT, pitch 7.62mm, 01p; Manufacturer: Wurth Elektronik; Modularity: Yes; Rated Current: 10A; Wire Section: 16 to 30 (AWG) 1.31 to 0.0509 (mm^2); Working Voltage: 300V (AC); Manufacturer Part Number: 691214400001; Product Series: WR-TBL; ComponentLink1Description: Website Link; ComponentLink1URL: https://www.we-online.com; ComponentLink2Description: Datasheet Link; ComponentLink2URL: https://www.we-online.com/components/products/datasheet/691214400001; Mount: Through Hole; Operating Temperature Min: -30degC; Operating Temperature Max: 120degC; Packaging: Box; Application: Rising Cage Clamp; Number of Pins: 1; Number of Rows: 1; Orientation: Vertical; Lead Pitch: 7.62mm
footprint 691214400001
pins: 1

## 691214400002
designator J?  (value not drawn)
WR-TBL Series 2144 Vertical Cable Entry, THT, pitch 7.62mm, 02p; Manufacturer: Wurth Elektronik; Modularity: Yes; Rated Current: 10A; Wire Section: 16 to 30 (AWG) 1.31 to 0.0509 (mm^2); Working Voltage: 300V (AC); Manufacturer Part Number: 691214400002; Product Series: WR-TBL; ComponentLink1Description: Website Link; ComponentLink1URL: https://www.we-online.com; ComponentLink2Description: Datasheet Link; ComponentLink2URL: https://www.we-online.com/components/products/datasheet/691214400002; Mount: Through Hole; Operating Temperature Min: -30degC; Operating Temperature Max: 120degC; Packaging: Box; Application: Rising Cage Clamp; Number of Pins: 2; Number of Rows: 1; Orientation: Vertical; Lead Pitch: 7.62mm
footprint 691214400002
pins: 1, 2

## 691214400101
designator J?  (value not drawn)
WR-TBL Series 2144 Vertical Cable Entry, THT, pitch 7.62mm, 01p; Manufacturer: Wurth Elektronik; Modularity: Yes; Rated Current: 10A; Wire Section: 16 to 30 (AWG) 1.31 to 0.0509 (mm^2); Working Voltage: 300V (AC); Manufacturer Part Number: 691214400101; Product Series: WR-TBL; ComponentLink1Description: Website Link; ComponentLink1URL: https://www.we-online.com; ComponentLink2Description: Datasheet Link; ComponentLink2URL: https://www.we-online.com/components/products/datasheet/691214400101; Mount: Through Hole; Operating Temperature Min: -30degC; Operating Temperature Max: 120degC; Packaging: Box; Application: Rising Cage Clamp; Number of Pins: 1; Number of Rows: 1; Orientation: Vertical; Lead Pitch: 7.62mm
footprint 691214400101
pins: 1

## 691214410001
designator J?  (value not drawn)
WR-TBL Series 2144 Horizontal Entry, THT, pitch 7.62mm, 01p; Manufacturer: Wurth Elektronik; Modularity: Yes; Rated Current: 10A; Wire Section: 16 to 30 (AWG) 1.31 to 0.0509 (mm^2); Working Voltage: 300V (AC); Manufacturer Part Number: 691214410001; Product Series: WR-TBL; ComponentLink1Description: Website Link; ComponentLink1URL: https://www.we-online.com; ComponentLink2Description: Datasheet Link; ComponentLink2URL: https://www.we-online.com/components/products/datasheet/691214410001; Mount: Through Hole; Operating Temperature Min: -30degC; Operating Temperature Max: 120degC; Packaging: Box; Application: Rising Cage Clamp; Number of Pins: 1; Number of Rows: 1; Orientation: Horizontal; Lead Pitch: 7.62mm
footprint 691214410001
pins: 1

## 691214410002
designator J?  (value not drawn)
WR-TBL Series 2144 Horizontal Entry, THT, pitch 7.62mm, 02p; Manufacturer: Wurth Elektronik; Modularity: Yes; Rated Current: 10A; Wire Section: 16 to 30 (AWG) 1.31 to 0.0509 (mm^2); Working Voltage: 300V (AC); Manufacturer Part Number: 691214410002; Product Series: WR-TBL; ComponentLink1Description: Website Link; ComponentLink1URL: https://www.we-online.com; ComponentLink2Description: Datasheet Link; ComponentLink2URL: https://www.we-online.com/components/products/datasheet/691214410002; Mount: Through Hole; Operating Temperature Min: -30degC; Operating Temperature Max: 120degC; Packaging: Box; Application: Rising Cage Clamp; Number of Pins: 2; Number of Rows: 1; Orientation: Horizontal; Lead Pitch: 7.62mm
footprint 691214410002
pins: 1, 2

## 691214410101
designator J?  (value not drawn)
WR-TBL Series 2144 Horizontal Entry, THT, pitch 7.62mm, 01p; Manufacturer: Wurth Elektronik; Modularity: Yes; Rated Current: 10A; Wire Section: 16 to 30 (AWG) 1.31 to 0.0509 (mm^2); Working Voltage: 300V (AC); Manufacturer Part Number: 691214410101; Product Series: WR-TBL; ComponentLink1Description: Website Link; ComponentLink1URL: https://www.we-online.com; ComponentLink2Description: Datasheet Link; ComponentLink2URL: https://www.we-online.com/components/products/datasheet/691214410101; Mount: Through Hole; Operating Temperature Min: -30degC; Operating Temperature Max: 120degC; Packaging: Box; Application: Rising Cage Clamp; Number of Pins: 1; Number of Rows: 1; Orientation: Horizontal; Lead Pitch: 7.62mm
footprint 691214410101
pins: 1

## 691215700002
designator J?  (value not drawn)
WR-TBL Series 2157 Vertical Entry Modular, THT, pitch 5mm, 02p; Manufacturer: Wurth Elektronik; Modularity: Yes; Rated Current: 20A; Wire Section: 30 to 12 (AWG) 0.2 to 2.5 (mm^2); Working Voltage: 300V (AC); Manufacturer Part Number: 691215700002; Product Series: WR-TBL; ComponentLink1Description: Website Link; ComponentLink1URL: https://www.we-online.com; ComponentLink2Description: Datasheet Link; ComponentLink2URL: https://www.we-online.com/components/products/datasheet/691215700002; Mount: Through Hole; Operating Temperature Min: -40degC; Operating Temperature Max: 105degC; Packaging: Box; Application: Rising Cage Clamp; Number of Pins: 2; Number of Rows: 1; Orientation: Vertical; Lead Pitch: 5mm
footprint 691215700002
pins: 1, 2

## 691215700003
designator J?  (value not drawn)
WR-TBL Series 2157 Vertical Entry Modular, THT, pitch 5mm, 03p; Manufacturer: Wurth Elektronik; Modularity: Yes; Rated Current: 20A; Wire Section: 30 to 12 (AWG) 0.2 to 2.5 (mm^2); Working Voltage: 300V (AC); Manufacturer Part Number: 691215700003; Product Series: WR-TBL; ComponentLink1Description: Website Link; ComponentLink1URL: https://www.we-online.com; ComponentLink2Description: Datasheet Link; ComponentLink2URL: https://www.we-online.com/components/products/datasheet/691215700003; Mount: Through Hole; Operating Temperature Min: -40degC; Operating Temperature Max: 105degC; Packaging: Box; Application: Rising Cage Clamp; Number of Pins: 3; Number of Rows: 1; Orientation: Vertical; Lead Pitch: 5mm
footprint 691215700003
pins: 1, 2, 3

## 691216400002
designator J?  (value not drawn)
WR-TBL Series 2164 Vertical Entry, THT, pitch 7.62mm, 02p; Manufacturer: Wurth Elektronik; Modularity: Yes; Rated Current: 14A; Wire Section: 12 to 30 (AWG) 3.31 to 0.05 (mm^2); Working Voltage: 300V (AC); Manufacturer Part Number: 691216400002; Product Series: WR-TBL; ComponentLink1Description: Website Link; ComponentLink1URL: https://www.we-online.com; ComponentLink2Description: Datasheet Link; ComponentLink2URL: https://www.we-online.com/components/products/datasheet/691216400002; Mount: Through Hole; Operating Temperature Min: -30degC; Operating Temperature Max: 120degC; Packaging: Box; Application: Rising Cage Clamp; Number of Pins: 2; Number of Rows: 1; Orientation: Vertical; Lead Pitch: 7.62mm
footprint 691216400002
pins: 1, 2

## 691216400003
designator J?  (value not drawn)
WR-TBL Series 2164 Vertical Entry, THT, pitch 7.62mm, 03p; Manufacturer: Wurth Elektronik; Modularity: Yes; Rated Current: 14A; Wire Section: 12 to 30 (AWG) 3.31 to 0.05 (mm^2); Working Voltage: 300V (AC); Manufacturer Part Number: 691216400003; Product Series: WR-TBL; ComponentLink1Description: Website Link; ComponentLink1URL: https://www.we-online.com; ComponentLink2Description: Datasheet Link; ComponentLink2URL: https://www.we-online.com/components/products/datasheet/691216400003; Mount: Through Hole; Operating Temperature Min: -30degC; Operating Temperature Max: 120degC; Packaging: Box; Application: Rising Cage Clamp; Number of Pins: 3; Number of Rows: 1; Orientation: Vertical; Lead Pitch: 7.62mm
footprint 691216400003
pins: 1, 2, 3